# Altium footprint library PCB - LEADLESS - SON - NEXPERIA XSON-8.PCBLIB: 2 footprints
Each footprint in its own frame and in the unit in brackets; x right, y up, seen from the top. Pads: shape width x height; smd on the part's side, far side on the other; paste and mask are expansions set on the pad; w line width, h text height; cw(c..) or ccw(c..) is an arc to the next point about the centre after c.
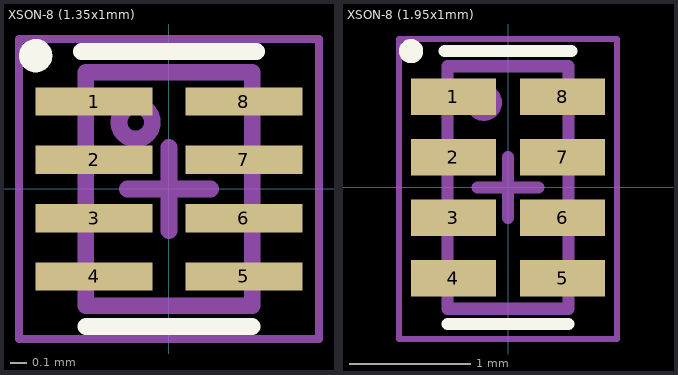
[diagram p0: the footprints below, top view; thin cyan lines are the x and y axes]

## XSON-8 (1.35x1mm) [mm] "XSON, 8-Leads, Body 1.35x.00mm, Pitch 0.35mm, IPC Medium Density"
height 0.5
pads (8):
  rect 0.7x0.17 smd mask+0.05: 1(-0.45,0.525) 2(-0.45,0.175) 3(-0.45,-0.175) 4(-0.45,-0.525) 5(0.45,-0.525) 6(0.45,-0.175) 7(0.45,0.175) 8(0.45,0.525)
Top Overlay:
  circle w0.1: c-0.8,0.8 r0.05
  lines w0.1: -0.525,0.825 0.525,0.825 ; -0.5,-0.825 0.5,-0.825
Mechanical 13:
  circle w0.1: c-0.2,0.4 r0.1
  lines w0.1: -0.5,-0.7 0.5,-0.7 0.5,0.7 -0.5,0.7 -0.5,-0.7
Mechanical 15:
  lines w0.05: -0.9,-0.9 0.9,-0.9 0.9,0.9 -0.9,0.9 -0.9,-0.9
  lines w0.1: -0.25,0 0.25,0 ; 0,-0.25 0,0.25
3D body: height 0.5, standoff 0.01, extent -0.5,-0.7 0.5,0.7

## XSON-8 (1.95x1mm) [mm] "XSON, 8-Leads, Body 1.95x.00mm, Pitch 0.50mm, IPC Medium Density"
height 0.5
pads (8):
  rect 0.7x0.3 smd mask+0.05: 1(-0.45,0.75) 2(-0.45,0.25) 3(-0.45,-0.25) 4(-0.45,-0.75) 5(0.45,-0.75) 6(0.45,-0.25) 7(0.45,0.25) 8(0.45,0.75)
Top Overlay:
  circle w0.1: c-0.8,1.125 r0.05
  lines w0.1: -0.525,1.125 0.525,1.125 ; -0.5,-1.125 0.5,-1.125
Mechanical 13:
  circle w0.1: c-0.2,0.7 r0.1
  lines w0.1: -0.5,-1 -0.5,1 0.5,1 0.5,-1 -0.5,-1
Mechanical 15:
  lines w0.05: -0.9,-1.25 -0.9,1.225 0.9,1.225 0.9,-1.25 -0.9,-1.25
  lines w0.1: -0.25,0 0.25,0 ; 0,-0.25 0,0.25
3D body: height 0.5, standoff 0.01, extent -0.5,-1 0.5,1